# Altium integrated library MergenElektronik_Diodes_BridgeRectifiers.IntLib: 1 symbol
Pins are listed as number, name and electrical type; pins without a type are passive.

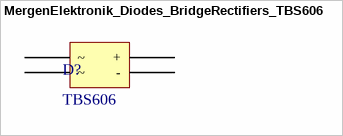
[diagram p0: symbol MergenElektronik_Diodes_BridgeRectifiers_TBS606]

## MergenElektronik_Diodes_BridgeRectifiers_TBS606
designator D?, comment TBS606
Mergen Elektronik - Diodes - Bridge Rectifiers - TBS606; Manufacturer: Taiwan Semiconductor Corporation; Voltage Rated: 600V; Current Rating: 6A; Digi-Key Number: 1801-TBS606TR-ND; Manufacturer Number: TBS606; Model: Bridge Rectifier; Mounting Type: Surface Mount; Mouser Number: 821-TBS606; Package: TBS606; Temperature: -55°C up to 150°C (TJ); Value: TBS606; Supplier 1: Digikey; Supplier 2: Mouser; Supplier Part Number 1: 1801-TBS606CT-ND; Supplier Part Number 2: 821-TBS606
footprint MergenElektronik_Diodes_BridgeRectifiers_TBS606 (TBS606)
pins: 1 + (power), 2 - (power), 3 ~ (power), 4 ~ (power)